# Altium schematic symbol library Connector.SchLib: 5 symbols
Pins are listed as number, name and electrical type; pins without a type are passive.

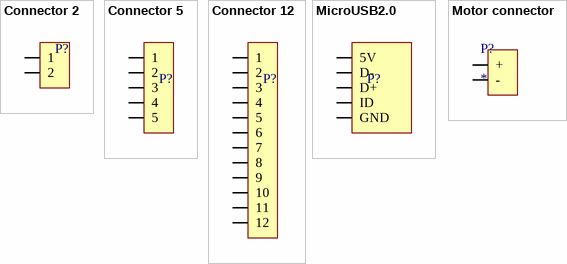
[diagram p0: symbols Connector 2 to Motor connector]

## Connector 2
designator P?
Connector, 2-Pin
footprint HEADER1X2 (Standard Header, 1x2, 2.54mm Pitch)
pins: 1, 2

## Connector 5
designator P?
Connector 5-Pin
footprint HEADER1X5 (Standard Header, 1x5, 2.54mm Pitch)
footprint BM05B-SRSS_N (SH Connector, 5-Leads, 1mm Pitch, Top Entry, IPC Medium Density)
pins: 1, 2, 3, 4, 5

## Connector 12
designator P?
Connector 12-Pin
footprint FH33-12S-0.5SH_N (Flax flexible cable connector, 12-Leads, 0.5mm Pitch, Side entry, IPC medium density)
pins: 1, 2, 3, 4, 5, 6, 7, 8, 9, 10, 11, 12

## MicroUSB2.0
designator P?  (value not drawn)
Micro USB 2.0 plug/receptacle, 5-Leads
footprint USB3076_M (Micro USB B Receptacle, Horizontal, 0.65mm Pitch, IPC Low Density)
pins: 1 5V, 2 D-, 3 D+, 4 ID, 5 GND

## Motor connector
designator P?
2-lead motor connector
footprint CABLE-TERMINAL1x2 (Cable to board terminal, 1x2, 1.5mm pitch); pin to pad +>1 ->2
pins: + (power), - (power)